# Altium schematic symbol library DYBoard_Transducer_CAN.SchLib: 1 symbol
Pins are listed as number, name and electrical type; pins without a type are passive.

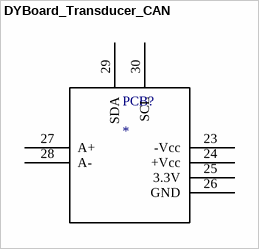
[diagram p0: symbol DYBoard_Transducer_CAN]

## DYBoard_Transducer_CAN
designator PCB?
footprint DYBoard_Transducer_CAN
pins: 23 -Vcc, 24 +Vcc, 25 3.3V, 26 GND, 27 A+, 28 A-, 29 SDA, 30 SCL